# EAGLE library part ATA6561-GBQW-N (library serial_interfaces)
1/1 Transceiver Half CAN 8-HVSON (3x3)
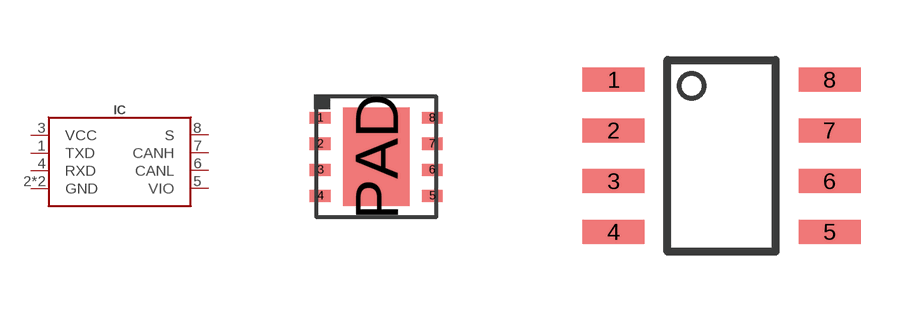
[diagram p19: symbol with the pads of SOT782-1; footprints SOT782-1, SOIC8]

Designator prefix IC

## ATA6561-GBQW-N-HVSON8 (AEC-Q: AEC-Q100; DATA_RATE: 5Mbps; DIGIKEY#: ATA6561-GBQW-NCT-ND; MANF: Microchip Technology; MANF#: ATA6561-GBQW-N; VOLTAGE_SUPPLY: 4.5V ~ 5.5V)  [SOT782-1]
1  TXD
2  GND
3  VCC
4  RXD
5  VIO
6  CANL
7  CANH
8  S
PAD  GND

## ATA6561-GBQW-N-SO8  [SOIC8]
1  TXD
2  GND
3  VCC
4  RXD
5  VIO
6  CANL
7  CANH
8  S

## Footprint SOT782-1 (pad centres in mm)
http://www.nxp.com/packages/SOT782-1
smd 0.525 x 0.3: 1 -1.4,0.975; 2 -1.4,0.325; 3 -1.4,-0.325; 4 -1.4,-0.975; 5 1.4,-0.975; 6 1.4,-0.325; 7 1.4,0.325; 8 1.4,0.975
smd 1.65 x 2.45: PAD 0,0

## Footprint SOIC8 (pad centres in mm)
https://www.ti.com/lit/ds/snvsaq5a/snvsaq5a.pdf?ts=1602424164509
smd 1.55 x 0.6: 1 -2.7,1.905; 2 -2.7,0.635; 3 -2.7,-0.635; 4 -2.7,-1.905; 5 2.7,-1.905; 6 2.7,-0.635; 7 2.7,0.635; 8 2.7,1.905